# Altium schematic symbol library Resistor.SchLib: 9 symbols
Pins are listed as number, name and electrical type; pins without a type are passive.

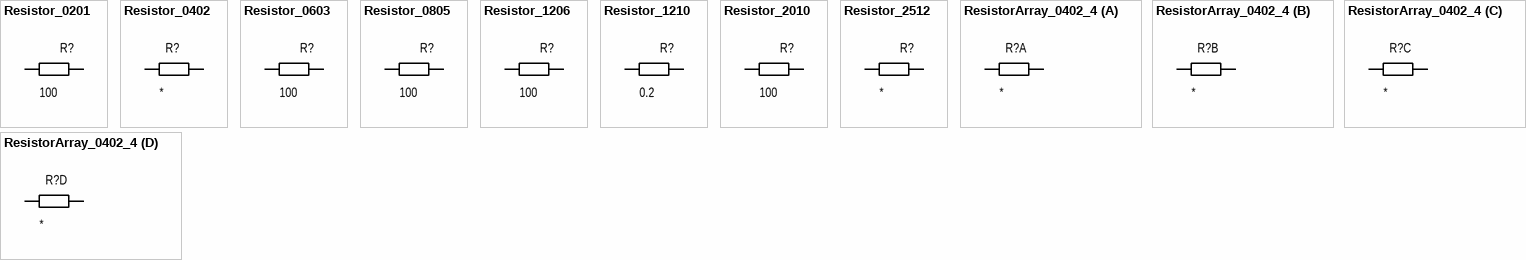
[diagram p0: symbols Resistor_0201 to ResistorArray_0402_4]

## Resistor_0201
designator R?  value 100
ValueManufacturerPartNumber: Resistor, 100, ±1%, 0201; Tolerance: ±1%; TypeResistor: Resistor; Manufacturer: *; Mfr.Part: *; Package: 0201; HelpURL: *
footprint RES: 0201
pins: 1, 2

## Resistor_0402
designator R?
ValueManufacturerPartNumber: Resistor, *, ±1%, 0402; TypeResistor: Resistor; Tolerance: ±1%; Manufacturer: *; Mfr.Part: *; Package: 0402; HelpURL: *; Value: *
footprint RES: 0402
pins: 1, 2

## Resistor_0603
designator R?  value 100
ValueManufacturerPartNumber: Resistor, 100, ±1%, 0603; TypeResistor: Resistor; Tolerance: ±1%; Manufacturer: *; Mfr.Part: *; Package: 0603; HelpURL: *
footprint RES: 0603
pins: 1, 2

## Resistor_0805
designator R?  value 100
ValueManufacturerPartNumber: Resistor, 100, ±1%, 0805; TypeResistor: Resistor; Tolerance: ±1%; Manufacturer: *; Mfr.Part: *; Package: 0805; HelpURL: *
footprint RES: 0805
pins: 1, 2

## Resistor_1206
designator R?  value 100
ValueManufacturerPartNumber: Resistor, 100, ±1%, 1206; TypeResistor: Resistor; Tolerance: ±1%; Manufacturer: *; Mfr.Part: *; Package: 1206; HelpURL: *
footprint RES: 1206
pins: 1, 2

## Resistor_1210
designator R?  value 0.2
ValueManufacturerPartNumber: Resistor, 0.2, ±1%, 1210; TypeResistor: Resistor; Tolerance: ±1%; Manufacturer: *; Mfr.Part: *; Package: 1210; HelpURL: *
footprint RES: 1210
pins: 1, 2

## Resistor_2010
designator R?  value 100
ValueManufacturerPartNumber: Resistor, 100, ±1%, 2010; TypeResistor: Resistor; Tolerance: ±1%; Manufacturer: *; Mfr.Part: *; Package: 2010; HelpURL: *
footprint RES: 2010
pins: 1, 2

## Resistor_2512
designator R?
ValueManufacturerPartNumber: Resistor, *, ±1%, 2512; TypeResistor: Resistor; Tolerance: ±1%; Manufacturer: *; Mfr.Part: *; Package: 2512; HelpURL: *; Value: *
footprint RES: 2512
pins: 1, 2

## ResistorArray_0402_4
designator R?
ValueManufacturerPartNumber: Resistor array (4), *, ±1%, 0402; TypeResistor: Resistor array (4); Tolerance: ±1%; Manufacturer: *; Mfr.Part: *; Package: 0402; HelpURL: *; Value: *
footprint RES: Array 4x0402
part A pins: 1, 8
part B pins: 2, 7
part C pins: 3, 6
part D pins: 4, 5